# Altium footprint library SRR6038-3R3Y.PcbLib: 1 footprints
Each footprint in its own frame and in the unit in brackets; x right, y up, seen from the top. Pads: shape width x height; smd on the part's side, far side on the other; paste and mask are expansions set on the pad; w line width, h text height; cw(c..) or ccw(c..) is an arc to the next point about the centre after c.
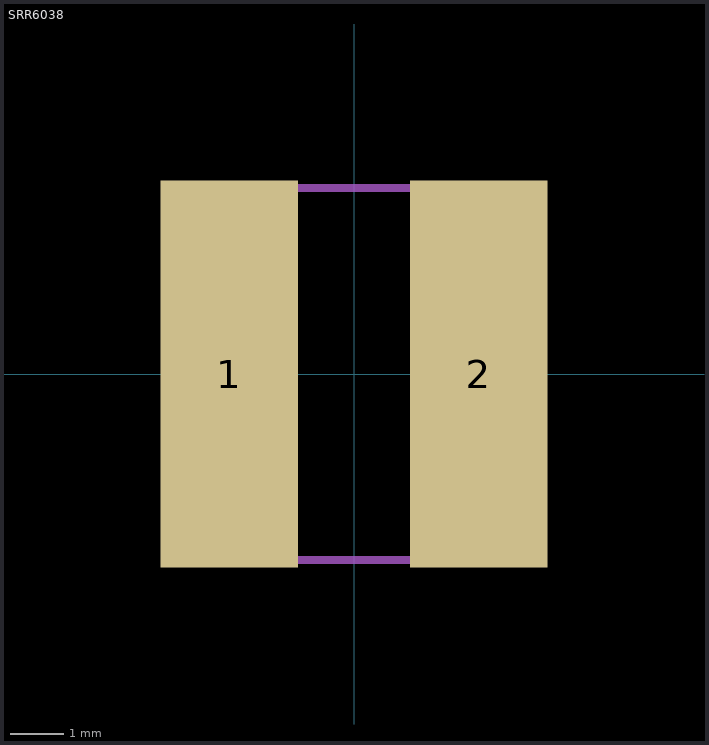
[diagram p0: the footprint, top view; thin cyan lines are the x and y axes]

## SRR6038 [mil]
pads (2):
  rect 102x287 smd: 1(-92.5,0) 2(92.5,0)
Mechanical 13:
  lines w6: -138,-138 -138,138 138,138 138,-138 -138,-138